# Altium schematic symbol library XBeeLight.SchLib: 35 symbols
Pins are listed as number, name and electrical type; pins without a type are passive.

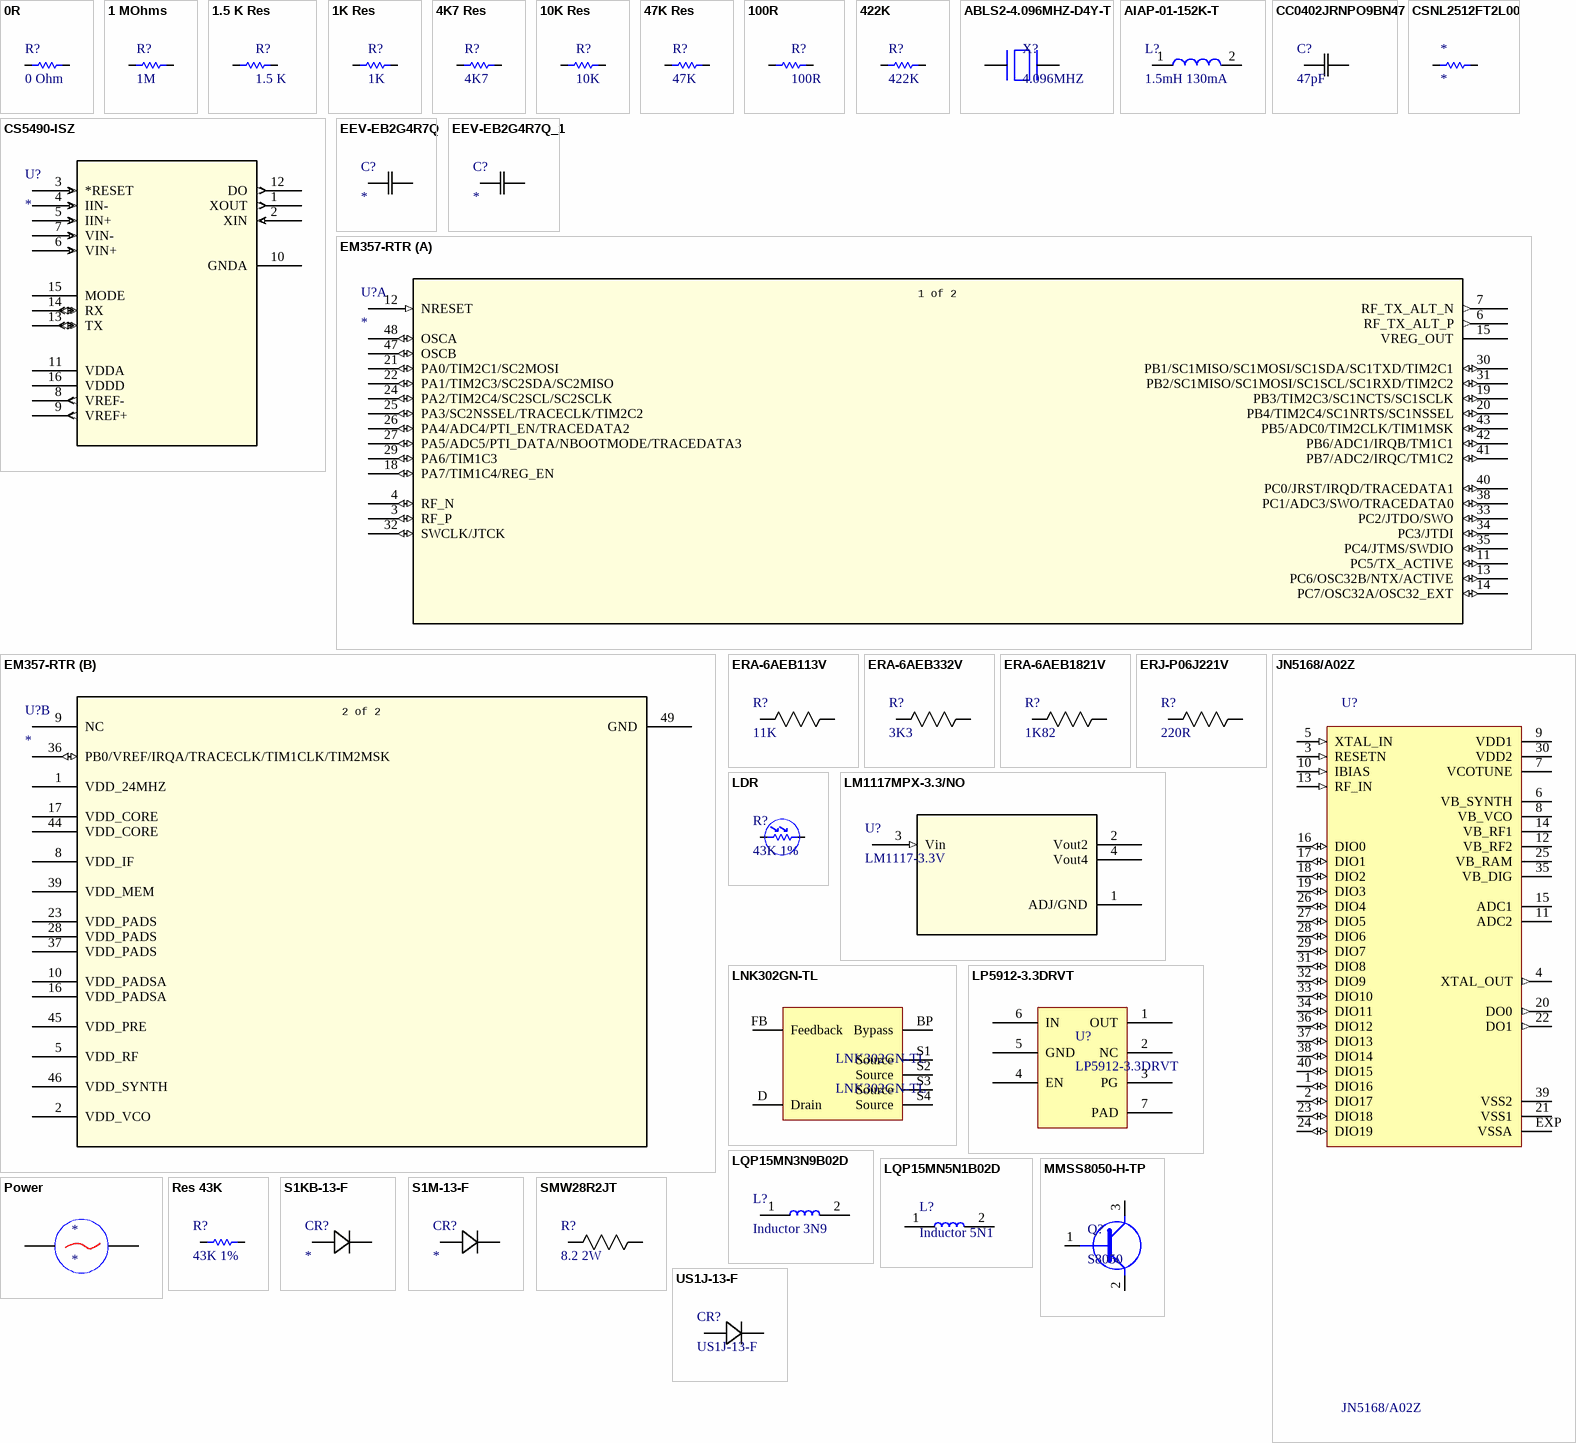
[diagram p0: symbols 0R to US1J-13-F]

## 0R
designator R?, comment 0 Ohm
Res Thick Film 0402 0 Ohm Molded SMD Automotive T/R; Manufacturer: Panasonic; Manufacturer Part Number: ERJ-2GE0R00X; EDA / CAD Models: Download from Accelerated Designs; Resistance (Ohms): 0.0; Tolerance: Jumper; Power (Watts): 0.1W, 1/10W; Online Catalog: ERJ Series; Other Names: P0.0JDKR; Supplier 1: Digi-Key; Stock 1: 6743847; Pricing 1: 1=0.1, 10=0.028, 25=0.0204, 50=0.0154, 100=0.0114, 250=0.0087, 500=0.007, 1000=0.0051, 5000=0.0037 (USD); Standard Package: 1; Category: Resistors; Family: Chip Resistor - Surface Mount; Series: ERJ; Packaging: Digi-Reel®; Composition: Thick Film; Features: Automotive AEC-Q200; Temperature Coefficient: -; Operating Temperature: -55°C ~ 155°C; Package / Case: 0402 (1005 Metric); Supplier Device Package: 0402; Size / Dimension: 0.039" L x 0.020" W (1.00mm x 0.50mm); Height: 0.016" (0.40mm); Number of Terminations: 2; ComponentLink1URL: https://datasheet.ciiva.com/11821/0900766b80f806dd-11821176.pdf; ComponentLink1Description: https://datasheet.ciiva.com/11821/0900766b80f806dd-11821176.pdf; ComponentLink2URL: https://datasheet.ciiva.com/48531/aoa0000ce1-48531077.pdf; ComponentLink2Description: https://datasheet.ciiva.com/48531/aoa0000ce1-48531077.pdf; ComponentLink3URL: https://datasheet.ciiva.com/16783/70260739-16783734.pdf; ComponentLink3Description: https://datasheet.ciiva.com/16783/70260739-16783734.pdf; ComponentLink4URL: https://datasheet.ciiva.com/17215/aoa0000ce1-17215386.pdf; ComponentLink4Description: https://datasheet.ciiva.com/17215/aoa0000ce1-17215386.pdf; ComponentLink5URL: https://datasheet.ciiva.com/43460/1678796-43460347.pdf; ComponentLink5Description: https://datasheet.ciiva.com/43460/1678796-43460347.pdf; ComponentLink6URL: https://datasheet.ciiva.com/5959/1678796-5959692.pdf; ComponentLink6Description: https://datasheet.ciiva.com/5959/1678796-5959692.pdf; ComponentLink7URL: https://datasheet.ciiva.com/30097/4aoa0000ce1-30097116.pdf; ComponentLink7Description: https://datasheet.ciiva.com/30097/4aoa0000ce1-30097116.pdf; ComponentLink8URL: https://datasheet.ciiva.com/28695/1678796-28695758.pdf; ComponentLink8Description: https://datasheet.ciiva.com/28695/1678796-28695758.pdf; ComponentLink9URL: https://datasheet.ciiva.com/46389/1678796-46389518.pdf; ComponentLink9Description: https://datasheet.ciiva.com/46389/1678796-46389518.pdf; ComponentLink10URL: https://datasheet.ciiva.com/16778/70260739-16778335.pdf; ComponentLink10Description: https://datasheet.ciiva.com/16778/70260739-16778335.pdf; Supplier Part Number 1: P0.0JCT-ND
footprint MCS 0402
pins: 1, 2

## 1 MOhms
designator R?, comment 1M
RES SMD 1M OHM 1% 1/10W 0402; Manufacturer: Vishay Beyschlag; Manufacturer Part Number: MCS04020C1004FE000; Brand: Vishay / Beyschlag; Power Rating: 63 mW; Temperature Coefficient: 50 PPM / K; Voltage Rating: 50 V; Case Height: 0.32 mm; Case Length: 1 mm; Case Width: 0.5 mm; Unit Weight: 0.000021 oz; Resistance: 1 MOhms; Supplier 1: Digi-Key; Stock 1: 20171; Pricing 1: 1=0.3, 10=0.254, 100=0.0993, 1000=0.0416, 2500=0.0381, 5000=0.0347 (USD); Product Category: Thin Film Resistors - SMD; RoHS: Details; Tolerance: 1 %; Case Code - in: 0402; Case Code - mm: 1005; Operating Temperature Range: - 55 C to + 125 C; Package / Case: 0402 (1005 metric); Packaging: Reel; Product: Professional Resistors Thin Film SMD; Series: MCx; Factory Pack Quantity: 10000; Type: Professional Thin Film Chip Resistors; ComponentLink1URL: https://datasheet.ciiva.com/12700/mc-pro-223600-12700038.pdf; ComponentLink1Description: https://datasheet.ciiva.com/12700/mc-pro-223600-12700038.pdf; ComponentLink2URL: https://datasheet.ciiva.com/17204/mc-pro-17204358.pdf; ComponentLink2Description: https://datasheet.ciiva.com/17204/mc-pro-17204358.pdf; ComponentLink3URL: https://datasheet.ciiva.com/2471/mc-pro-2471768.pdf; ComponentLink3Description: https://datasheet.ciiva.com/2471/mc-pro-2471768.pdf; ComponentLink4URL: https://datasheet.ciiva.com/2471/mc-pro-2471769.pdf; ComponentLink4Description: https://datasheet.ciiva.com/2471/mc-pro-2471769.pdf; ComponentLink5URL: https://datasheet.ciiva.com/2471/mc-pro-2471770.pdf; ComponentLink5Description: https://datasheet.ciiva.com/2471/mc-pro-2471770.pdf; ComponentLink6URL: https://datasheet.ciiva.com/8901/mc-pro-8901820.pdf; ComponentLink6Description: https://datasheet.ciiva.com/8901/mc-pro-8901820.pdf; Supplier Part Number 1: MCS0402-1.00M-CFCT-ND
footprint MCS 0402
pins: 1, 2

## 1.5 K Res
designator R?, comment 1.5 K
Res Thin Film 0402 1.5K Ohm 0.1% 0.063W(1/16W) ±25ppm/C Molded SMD Automotive Punched T/R; Manufacturer: Panasonic; Manufacturer Part Number: ERA-2AEB152X; Temperature Coefficient: ± 25ppm/°C; Voltage Rating: 25V; Product Range: PANASONIC - ERA Series; Power Rating: 63mW; Resistor Case Style: 0402 ^1005 Metric]; Supplier 1: Digi-Key; Stock 1: 80267; Pricing 1: 1=0.43, 10=0.326, 100=0.137, 1000=0.0756, 2500=0.0709, 5000=0.0652 (USD); Resistance: 1.5kohm; Resistance Tolerance: ± 0.1%; Resistor Element Type: Thin Film; ComponentLink1URL: https://datasheet.ciiva.com/11812/0900766b80beefcc-11812726.pdf; ComponentLink1Description: https://datasheet.ciiva.com/11812/0900766b80beefcc-11812726.pdf; ComponentLink2URL: https://datasheet.ciiva.com/9198/aoa0000ce26-9198134.pdf; ComponentLink2Description: https://datasheet.ciiva.com/9198/aoa0000ce26-9198134.pdf; ComponentLink3URL: https://datasheet.ciiva.com/17214/aoa0000ce26-17214729.pdf; ComponentLink3Description: https://datasheet.ciiva.com/17214/aoa0000ce26-17214729.pdf; ComponentLink4URL: https://datasheet.ciiva.com/24071/aoa0000ce26-197354-24071641.pdf; ComponentLink4Description: https://datasheet.ciiva.com/24071/aoa0000ce26-197354-24071641.pdf; Supplier Part Number 1: P1.5KDCCT-ND
footprint MCS 0402
pins: 1, 2

## 1K Res
designator R?, comment 1K
RES SMD 1K OHM 5% 1/32W 01005; Manufacturer: Panasonic; Manufacturer Part Number: ERJ-XGNJ102Y; Resistance: 1 kOhms; Power Rating: 31 mW; Temperature Coefficient: 200 PPM / C; Voltage Rating: 15 V; Case Height: 0.13 mm; Case Length: 0.4 mm; Case Width: 0.2 mm; Supplier 1: Digi-Key; Stock 1: 104433; Pricing 1: 1=0.4, 10=0.335, 100=0.131, 1000=0.0548, 2500=0.0503, 5000=0.0457 (USD); Product Category: Thick Film Resistors - SMD; RoHS: Details; Tolerance: 5 %; Case Code - in: 01005; Case Code - mm: 0402; Operating Temperature Range: - 55 C to + 125 C; Brand: Panasonic; Package / Case: 01005 (0402 metric); Packaging: Reel; Product: Thick Film Resistors SMD; Series: ERJ; Factory Pack Quantity: 20000; Type: Thick Film Resistors SMD; ComponentLink1URL: https://datasheet.ciiva.com/9199/aoa0000ce1-9199077.pdf; ComponentLink1Description: https://datasheet.ciiva.com/9199/aoa0000ce1-9199077.pdf; ComponentLink2URL: https://datasheet.ciiva.com/6544/erjxgn-6544006.pdf; ComponentLink2Description: https://datasheet.ciiva.com/6544/erjxgn-6544006.pdf; ComponentLink3URL: https://datasheet.ciiva.com/17215/aoa0000ce1-17215353.pdf; ComponentLink3Description: https://datasheet.ciiva.com/17215/aoa0000ce1-17215353.pdf; ComponentLink4URL: https://datasheet.ciiva.com/6544/erjxgn-6544011.pdf; ComponentLink4Description: https://datasheet.ciiva.com/6544/erjxgn-6544011.pdf; ComponentLink5URL: https://datasheet.ciiva.com/30174/4aoa0000ce1-30174159.pdf; ComponentLink5Description: https://datasheet.ciiva.com/30174/4aoa0000ce1-30174159.pdf; Supplier Part Number 1: P1.0KAWCT-ND
footprint MCS 0402
pins: 1, 2

## 4K7 Res
designator R?, comment 4K7
Panasonic ERA Series Thin Film Surface Mount Resistor 0402 Case 4.7k 0.1% 0.063W 25ppm/C; Manufacturer Part Number: ERA-2AEB472X; Resistance: 4.7 kO; Temp Coefficient: ±25 ppm/°C; Supplier 1: Digi-Key; Manufacturer: Panasonic; Stock 1: 111513; Pricing 1: 1=0.43, 10=0.326, 100=0.137, 1000=0.0756, 2500=0.0709, 5000=0.0652 (USD); Rated Power: 0.063 W; Size Code: 0402; Tolerance (%): ±0.1 %; ComponentLink1URL: https://datasheet.ciiva.com/11811/0900766b80beefcc-11811886.pdf; ComponentLink1Description: https://datasheet.ciiva.com/11811/0900766b80beefcc-11811886.pdf; ComponentLink2URL: https://datasheet.ciiva.com/22640/328837-22640615.pdf; ComponentLink2Description: https://datasheet.ciiva.com/22640/328837-22640615.pdf; ComponentLink3URL: https://datasheet.ciiva.com/24023/aoa0000ce26-197354-24023865.pdf; ComponentLink3Description: https://datasheet.ciiva.com/24023/aoa0000ce26-197354-24023865.pdf; ComponentLink4URL: https://datasheet.ciiva.com/46399/328837-46399002.pdf; ComponentLink4Description: https://datasheet.ciiva.com/46399/328837-46399002.pdf; ComponentLink5URL: https://datasheet.ciiva.com/22743/1776116-22743051.pdf; ComponentLink5Description: https://datasheet.ciiva.com/22743/1776116-22743051.pdf; ComponentLink6URL: https://datasheet.ciiva.com/9117/aoa0000ce26-9117420.pdf; ComponentLink6Description: https://datasheet.ciiva.com/9117/aoa0000ce26-9117420.pdf; ComponentLink7URL: https://datasheet.ciiva.com/16759/70068849-16759180.pdf; ComponentLink7Description: https://datasheet.ciiva.com/16759/70068849-16759180.pdf; ComponentLink8URL: https://datasheet.ciiva.com/9117/aoa0000ce26-9117423.pdf; ComponentLink8Description: https://datasheet.ciiva.com/9117/aoa0000ce26-9117423.pdf; ComponentLink9URL: https://datasheet.ciiva.com/16395/aoa0000ce26-16395247.pdf; ComponentLink9Description: https://datasheet.ciiva.com/16395/aoa0000ce26-16395247.pdf; ComponentLink10URL: https://datasheet.ciiva.com/25723/1776116-25723855.pdf; ComponentLink10Description: https://datasheet.ciiva.com/25723/1776116-25723855.pdf; Supplier Part Number 1: P4.7KDCCT-ND
footprint MCS 0402
pins: 1, 2

## 10K Res
designator R?, comment 10K
Res Thin Film 0402 10K Ohm 0.5% 0.063W(1/16W) ±25ppm/C Molded SMD Automotive Punched T/R; Manufacturer: Panasonic; Manufacturer Part Number: ERA-2AED103X; Resistance: 10 kO; Temp Coefficient: ±25 ppm/°C; Supplier 1: Digi-Key; Stock 1: 99513; Pricing 1: 1=0.22, 10=0.188, 100=0.0735, 1000=0.0308, 2500=0.0282, 5000=0.0256 (USD); Rated Power: 0.063 W; Size Code: 0402; Tolerance (%): ±0.5 %; ComponentLink1URL: https://datasheet.ciiva.com/43470/1776116-43470437.pdf; ComponentLink1Description: https://datasheet.ciiva.com/43470/1776116-43470437.pdf; ComponentLink2URL: https://datasheet.ciiva.com/7830/1776116-7830919.pdf; ComponentLink2Description: https://datasheet.ciiva.com/7830/1776116-7830919.pdf; ComponentLink3URL: https://datasheet.ciiva.com/30240/54aoa0000ce26-30240474.pdf; ComponentLink3Description: https://datasheet.ciiva.com/30240/54aoa0000ce26-30240474.pdf; ComponentLink4URL: https://datasheet.ciiva.com/46378/1776116-46378235.pdf; ComponentLink4Description: https://datasheet.ciiva.com/46378/1776116-46378235.pdf; Supplier Part Number 1: P10KDECT-ND
footprint MCS 0402
pins: 1, 2

## 47K Res
designator R?, comment 47K
RES SMD 47K OHM 5% 1/32W 01005; Manufacturer: Panasonic; Manufacturer Part Number: ERJ-XGNJ473Y; Resistance: 47 kOhms; Power Rating: 31 mW; Temperature Coefficient: 200 PPM / C; Voltage Rating: 15 V; Case Height: 0.13 mm; Case Length: 0.4 mm; Case Width: 0.2 mm; Supplier 1: Digi-Key; Stock 1: 158307; Pricing 1: 1=0.41, 10=0.345, 100=0.1347, 1000=0.0564, 2500=0.0517, 5000=0.047 (USD); Product Category: Thick Film Resistors - SMD; RoHS: Details; Tolerance: 5 %; Case Code - in: 01005; Case Code - mm: 0402; Operating Temperature Range: - 55 C to + 125 C; Brand: Panasonic; Package / Case: 01005 (0402 metric); Packaging: Reel; Product: Thick Film Resistors SMD; Series: ERJ; Factory Pack Quantity: 20000; Type: Thick Film Resistors SMD; ComponentLink1URL: https://datasheet.ciiva.com/6543/erjxgn-6543942.pdf; ComponentLink1Description: https://datasheet.ciiva.com/6543/erjxgn-6543942.pdf; ComponentLink2URL: https://datasheet.ciiva.com/24022/aoa0000ce1-37422-24022984.pdf; ComponentLink2Description: https://datasheet.ciiva.com/24022/aoa0000ce1-37422-24022984.pdf; ComponentLink3URL: https://datasheet.ciiva.com/30244/4aoa0000ce1-30244396.pdf; ComponentLink3Description: https://datasheet.ciiva.com/30244/4aoa0000ce1-30244396.pdf; ComponentLink4URL: https://datasheet.ciiva.com/6543/erjxgn-6543935.pdf; ComponentLink4Description: https://datasheet.ciiva.com/6543/erjxgn-6543935.pdf; Supplier Part Number 1: P47KAWCT-ND
footprint MCS 0402
pins: 1, 2

## 100R
designator R?
Res Thin Film 0402 100 Ohm 0.5% 0.063W(1/16W) ±25ppm/C Molded SMD Automotive Punched T/R; Manufacturer: Panasonic; Manufacturer Part Number: ERA-2AED101X; Featured Product: ERA-xA Metal/Thin Film Chip Resistors Hot New Technologies Wearables Technology Components; EDA / CAD Models: Download from Accelerated Designs; Resistance (Ohms): 100; Power (Watts): 0.063W, 1/16W; Temperature Coefficient: ±25ppm/°C; Online Catalog: ERA-2A Series; Other Names: P100DEDKR; Supplier 1: Digi-Key; Stock 1: 25171; Pricing 1: 1=0.22, 10=0.188, 100=0.0735, 1000=0.0308, 2500=0.0282, 5000=0.0256 (USD); Standard Package: 1; Category: Resistors; Family: Chip Resistor - Surface Mount; Series: ERA-2A; Packaging: Digi-Reel®; Tolerance: ±0.5%; Composition: Thin Film; Features: Automotive AEC-Q200; Operating Temperature: -55°C ~ 155°C; Package / Case: 0402 (1005 Metric); Supplier Device Package: 0402; Size / Dimension: 0.039" L x 0.020" W (1.00mm x 0.50mm); Height: 0.016" (0.40mm); Number of Terminations: 2; ComponentLink1URL: http://www.mouser.com/ds/2/315/AOA0000C237-1100991.pdf; ComponentLink1Description: http://www.mouser.com/ds/2/315/AOA0000C237-1100991.pdf; ComponentLink2URL: http://www.farnell.com/datasheets/1776116.pdf; ComponentLink2Description: http://www.farnell.com/datasheets/1776116.pdf; ComponentLink3URL: http://industrial.panasonic.com/www-data/pdf/AOA0000/AOA0000CE26.pdf; ComponentLink3Description: http://industrial.panasonic.com/www-data/pdf/AOA0000/AOA0000CE26.pdf; Supplier Part Number 1: P100DECT-ND
footprint MCS 0402
pins: 1, 2

## 422K
designator R?
RESISTOR, THICK FILM, 422KOHM, 100mW, ± 1%; Manufacturer: Panasonic; Manufacturer Part Number: ERJ-2RKF4223X; EDA / CAD Models: Download from Accelerated Designs; Power (Watts): 0.1W, 1/10W; Temperature Coefficient: ±100ppm/°C; Online Catalog: ERJ Series; Kits: RSM5L-ND  - RES KIT 100K-1M 1/10W 4850PCS; Other Names: ERJ-2RKF4223 ERJ2RKF4223 P422KLCT; Supplier 1: Digi-Key; Stock 1: 90880; Pricing 1: 1=0.1, 10=0.045, 100=0.0183, 1000=0.0082, 2500=0.0072, 5000=0.0059 (USD); Standard Package: 1; Category: Resistors; Family: Chip Resistor - Surface Mount; Series: ERJ; Packaging: Cut Tape (CT); Resistance (Ohms): 422k; Tolerance: ±1%; Composition: Thick Film; Features: Automotive AEC-Q200; Operating Temperature: -55°C ~ 155°C; Package / Case: 0402 (1005 Metric); Supplier Device Package: 0402; Size / Dimension: 0.039" L x 0.020" W (1.00mm x 0.50mm); Height: 0.016" (0.40mm); Number of Terminations: 2; ComponentLink1URL: http://www.farnell.com/datasheets/1678782.pdf; ComponentLink1Description: http://www.farnell.com/datasheets/1678782.pdf; ComponentLink2URL: http://industrial.panasonic.com/www-data/pdf/AOA0000/AOA0000CE2.pdf; ComponentLink2Description: http://industrial.panasonic.com/www-data/pdf/AOA0000/AOA0000CE2.pdf; ComponentLink3URL: http://www.mouser.com/ds/2/315/AOA0000C283-1093288.pdf; ComponentLink3Description: http://www.mouser.com/ds/2/315/AOA0000C283-1093288.pdf; Supplier Part Number 1: P422KLCT-ND
footprint MCS 0402
pins: 1, 2

## ABLS2-4.096MHZ-D4Y-T
designator X?, comment 4.096MHZ
4.096MHz ±30ppm Crystal 18pF 180 Ohm -40°C ~ 85°C  Surface Mount HC49/US; Manufacturer: Abracon; Manufacturer Part Number: ABLS2-4.096MHZ-D4Y-T; ESR: 180 ohm; Frequency Stability: ?30 ppm; Frequency Tolerance: ?30; Mode of Oscillation: Fundamental; Product Depth (mm): 4.7 mm; Product Length (mm): 11.4 mm; Screening Level: Industrial; Supplier 1: Digi-Key; Stock 1: 6062; Pricing 1: 1=0.46, 10=0.385, 50=0.3466, 100=0.308, 500=0.2926 (USD); Frequency: 4.096 MHz; Load Capacitance: 18 pF; Mounting Style: Surface Mount; Operating Temp Range: -40C to 85C; Package / Case: HC-49/US; Packaging: Tape and Reel; Type: Crystal; ComponentLink1URL: http://www.abracon.com/Resonators/ABLS2.pdf; ComponentLink1Description: http://www.abracon.com/Resonators/ABLS2.pdf; ComponentLink2URL: https://abracon.com/Resonators/ABLS2.pdf; ComponentLink2Description: https://abracon.com/Resonators/ABLS2.pdf; ComponentLink3URL: http://www.farnell.com/datasheets/1749648.pdf; ComponentLink3Description: http://www.farnell.com/datasheets/1749648.pdf; Supplier Part Number 1: 535-9858-1-ND
footprint XTAL_ABLS2-4.096MHZ-D4Y-T
pins: 1, 2

## AIAP-01-152K-T
designator L?, comment 1.5mH 130mA
Imported; Manufacturer_Part_Number: AIAP-01-152K-T; Built_By: EMA_UL_Team; Vendor: Abracon; Type: DEV; RefDes: RefDes; Value: Value
footprint AIAP-01
pins: 1, 2

## CC0402JRNPO9BN47
designator C?, comment 47pF
Imported; Manufacturer_Part_Number: CC0402JRNPO9BN470; Vendor: Yageo; Built_By: EMA_UL_Team; Type: DEV; C: Copyright (C) 2015 Accelerated Designs. All rights reserved; RefDes: RefDes; Value: Value
footprint CC0402N
pins: 1, 2

## CS5490-ISZ
designator U?
Imported; Manufacturer_Part_Number: CS5490-ISZ; Built_By: EMA_UL_Team; Vendor: Cirrus Logic; RefDes: RefDes; Type: DEV; Value: Value
footprint CIR-SOIC-16_W150
pins: 1 XOUT (out), 2 XIN (in), 3 *RESET (in), 4 IIN- (in), 5 IIN+ (in), 6 VIN+ (in), 7 VIN- (in), 8 VREF- (out), 9 VREF+ (out), 10 GNDA (power), 11 VDDA (power), 12 DO (out), 13 TX (io), 14 RX (io), 15 MODE, 16 VDDD (power)

## CSNL2512FT2L00
designator *
Res Metal Foil 2512 0.002 Ohm 1% 2W 50ppm/C Molded SMD SMD Plastic T/R; Manufacturer: Stackpole Electronics; Manufacturer Part Number: CSNL2512FT2L00; Resistance (Ohms): 0.002; Temperature Coefficient: ±50ppm/°C; Supplier 1: Digi-Key; Stock 1: 74871; Pricing 1: 1=0.68, 10=0.566, 25=0.4852, 50=0.4366, 100=0.38, 250=0.3396, 500=0.2749, 1000=0.2223 (USD); Category: Resistors; Family: Chip Resistor - Surface Mount; Series: CSNL; Packaging: Cut Tape (CT); Tolerance: ±1%; Power (Watts): 2W; Composition: Metal Foil; Features: Current Sense, Moisture Resistant; Operating Temperature: -55°C ~ 170°C; Package / Case: 2512 (6432 Metric); Supplier Device Package: 2512; Size / Dimension: 0.250" L x 0.125" W (6.35mm x 3.18mm); Height: 0.022" (0.55mm); Number of Terminations: 2; Supplier Part Number 1: CSNL2512FT2L00CT-ND
pins: 1, 2

## EEV-EB2G4R7Q
designator C?
Imported; Manufacturer_Part_Number: EEV-EB2G4R7Q; Vendor: Panasonic; Built_By: EMA_UL_Team; Type: DEV; C: Copyright (C) 2015 Accelerated Designs. All rights reserved; RefDes: RefDes; Value: Value
footprint CAP_PAN_EEE_G17
pins: 1, 2

## EEV-EB2G4R7Q_1
designator C?
Imported; Manufacturer_Part_Number: EEV-EB2G4R7Q; Vendor: Panasonic; Built_By: EMA_UL_Team; Type: DEV; C: Copyright (C) 2015 Accelerated Designs. All rights reserved; RefDes: RefDes; Value: Value
footprint CAP_PAN_EEE_G17
pins: 1, 2

## EM357-RTR
designator U?
Imported; Manufacturer_Part_Number: EM357-RTR; Built_By: EMA_UL_Team; Vendor: Silicon Labs; RefDes: RefDes; Type: DEV; Value: Value
footprint QFN48
part A pins: 3 RF_P (io), 4 RF_N (io), 6 RF_TX_ALT_P (out), 7 RF_TX_ALT_N (out), 11 PC5/TX_ACTIVE (io), 12 NRESET (in), 13 PC6/OSC32B/NTX/ACTIVE (io), 14 PC7/OSC32A/OSC32_EXT (io), 15 VREG_OUT (power), 18 PA7/TIM1C4/REG_EN (io), 19 PB3/TIM2C3/SC1NCTS/SC1SCLK (io), 20 PB4/TIM2C4/SC1NRTS/SC1NSSEL (io), 21 PA0/TIM2C1/SC2MOSI (io), 22 PA1/TIM2C3/SC2SDA/SC2MISO (io), 24 PA2/TIM2C4/SC2SCL/SC2SCLK (io), 25 PA3/SC2NSSEL/TRACECLK/TIM2C2 (io), 26 PA4/ADC4/PTI_EN/TRACEDATA2 (io), 27 PA5/ADC5/PTI_DATA/NBOOTMODE/TRACEDATA3 (io), 29 PA6/TIM1C3 (io), 30 PB1/SC1MISO/SC1MOSI/SC1SDA/SC1TXD/TIM2C1 (io), 31 PB2/SC1MISO/SC1MOSI/SC1SCL/SC1RXD/TIM2C2 (io), 32 SWCLK/JTCK (io), 33 PC2/JTDO/SWO (io), 34 PC3/JTDI (io), 35 PC4/JTMS/SWDIO (io), 38 PC1/ADC3/SWO/TRACEDATA0 (io), 40 PC0/JRST/IRQD/TRACEDATA1 (io), 41 PB7/ADC2/IRQC/TM1C2 (io), 42 PB6/ADC1/IRQB/TM1C1 (io), 43 PB5/ADC0/TIM2CLK/TIM1MSK (io), 47 OSCB (io), 48 OSCA (io)
part B pins: 1 VDD_24MHZ (power), 2 VDD_VCO (power), 5 VDD_RF (power), 8 VDD_IF (power), 9 NC, 10 VDD_PADSA (power), 16 VDD_PADSA (power), 17 VDD_CORE (power), 23 VDD_PADS (power), 28 VDD_PADS (power), 36 PB0/VREF/IRQA/TRACECLK/TIM1CLK/TIM2MSK (io), 37 VDD_PADS (power), 39 VDD_MEM (power), 44 VDD_CORE (power), 45 VDD_PRE (power), 46 VDD_SYNTH (power), 49 GND (power)
part A text: 1 of 2
part B text: 2 of 2

## ERA-6AEB113V
designator R?, comment 11K
Imported; Manufacturer_Part_Number: ERA-6AEB113V; Vendor: Panasonic; Built_By: EMA_UL_Team; C: Copyright (C) 2015 Accelerated Designs. All rights reserved; RefDes: RefDes; Type: DEV; Value: Value
footprint RC0805N
pins: 1, 2

## ERA-6AEB332V
designator R?, comment 3K3
Imported; Manufacturer_Part_Number: ERA-6AEB332V; Vendor: Panasonic; Built_By: EMA_UL_Team; C: Copyright (C) 2015 Accelerated Designs. All rights reserved; RefDes: RefDes; Type: DEV; Value: Value
footprint RC0805N
pins: 1, 2

## ERA-6AEB1821V
designator R?, comment 1K82
Imported; Manufacturer_Part_Number: ERA-6AEB1821V; Vendor: Panasonic; Built_By: EMA_UL_Team; C: Copyright (C) 2015 Accelerated Designs. All rights reserved; RefDes: RefDes; Type: DEV; Value: Value
footprint RES_ERA6A_0805
pins: 1, 2

## ERJ-P06J221V
designator R?, comment 220R
Imported; Manufacturer_Part_Number: ERJ-P06J221V; Vendor: Panasonic; Built_By: EMA_UL_Team; C: Copyright (C) 2015 Accelerated Designs. All rights reserved; RefDes: RefDes; Type: DEV; Value: Value
footprint RC0805N
pins: 1, 2

## JN5168/A02Z
designator U?
JN5168 - ZigBee, RF4CE, JenNet-IP and IEEE802.15.4 wireless microcontroller with 256 kB Flash, 32 kB RAM; MF: NXP Semiconductors; Availability: Unavailable; Price: None; Package: None; SnapEDA_Link: https://www.snapeda.com/parts/JN5168/A02Z/NXP%20Semiconductors/view-part/?ref=snap; MP: JN5168/A02Z; Value: *
footprint QFN50P600X600X100-41N_JN5168/A02Z(Primary)
pins: 1 DIO16 (io), 2 DIO17 (io), 3 RESETN (in), 4 XTAL_OUT (out), 5 XTAL_IN (in), 6 VB_SYNTH (power), 7 VCOTUNE (power), 8 VB_VCO (power), 9 VDD1 (power), 10 IBIAS (in), 11 ADC2 (power), 12 VB_RF2 (power), 13 RF_IN (in), 14 VB_RF1 (power), 15 ADC1 (power), 16 DIO0 (io), 17 DIO1 (io), 18 DIO2 (io), 19 DIO3 (io), 20 DO0 (out), 21 VSS1 (power), 22 DO1 (out), 23 DIO18 (io), 24 DIO19 (io), 25 VB_RAM (power), 26 DIO4 (io), 27 DIO5 (io), 28 DIO6 (io), 29 DIO7 (io), 30 VDD2 (power), 31 DIO8 (io), 32 DIO9 (io), 33 DIO10 (io), 34 DIO11 (io), 35 VB_DIG (power), 36 DIO12 (io), 37 DIO13 (io), 38 DIO14 (io), 39 VSS2 (power), 40 DIO15 (io), EXP VSSA (power)

## LDR
designator R?, comment 43K 1%
Imported; Manufacturer_Part_Number: ERJ-2RKF4302X; Vendor: Panasonic; Built_By: EMA_UL_Team; C: Copyright (C) 2015 Accelerated Designs. All rights reserved; RefDes: RefDes; Type: DEV; Value: Value
footprint RC0402N
pins: 1, 2

## LM1117MPX-3.3/NO
designator U?, comment LM1117-3.3V
Imported; Manufacturer_Part_Number: LM1117MPX-3.3/NOPB; Built_By: EMA_UL_Team; Vendor: National Semiconductor; RefDes: RefDes; Type: DEV; Value: Value
footprint MP04A
pins: 1 ADJ/GND, 2 Vout2 (power), 3 Vin (in), 4 Vout4 (power)

## LNK302GN-TL
designator LNK302GN-TL
IC OFFLINE SWIT OCP 8SMD; Manufacturer: Power Integrations; Dynamic Catalog: AC DC Converters, Offline Switchers; Power (Watts): 12mW; Reference Design Library: DER-092: 4 LEDs @ 40mA, 0.5W, 85 ~ 265VAC in; Output Isolation: Non-Isolated; Frequency Range: 62kHz ~ 70kHz; Voltage - Breakdown: 700V; Other Names: 596-1020-2 / LNK302GNTL; Supplier 1: Digi-Key; Supplier Part Number 1: 596-1020-1-ND; Manufacturer Part Number: LNK302GN-TL; Stock 1: 53740; Pricing 1: 1=1.35, 10=1.193, 25=1.0776, 100=0.9428, 250=0.8273, 500=0.7311 (USD); Standard Package: 1,000; Category: Integrated Circuits (ICs); Family: PMIC - AC DC Converters, Offline Switchers; Series: LinkSwitch®-TN; Packaging: Tape & Reel (TR); Voltage - Input: -; Voltage - Output: -; Operating Temperature: -40°C ~ 150°C; Package / Case: 8-SMD (7 Leads), Gull Wing; Supplier Device Package: SMD-8B; Online Catalog: AC DC Converters, Offline Switchers; ComponentLink1URL: http://www.powerint.com/sites/default/files/product-docs/lnk302_304-306.pdf; ComponentLink1Description: http://www.powerint.com/sites/default/files/product-docs/lnk302_304-306.pdf; ComponentLink2URL: https://www.power.com/sites/default/files/product-docs/lnk302_304-306.pdf; ComponentLink2Description: https://www.power.com/sites/default/files/product-docs/lnk302_304-306.pdf; ComponentLink3URL: http://www.power.com/sites/default/files/product-docs/lnk302_304-306.pdf; ComponentLink3Description: http://www.power.com/sites/default/files/product-docs/lnk302_304-306.pdf
footprint SMD-8B
pins: BP Bypass (oc), D Drain (oc), FB Feedback (oc), S1 Source (oc), S2 Source (oc), S3 Source (oc), S4 Source (oc)

## LP5912-3.3DRVT
designator U?
Linear Voltage Regulator IC Positive Fixed 1 Output 3.3V 500mA 6-SON (2x2); Manufacturer: Texas Instruments; Voltage - Dropout (Typical): 0.95V @ 500mA; Number of Regulators: 1; Voltage - Input: Up to 6.5V; Supplier 1: Digi-Key; Manufacturer Part Number: LP5912-3.3DRVT; Stock 1: 5942; Pricing 1: 1=1.38, 10=1.231, 100=0.9594 (USD); Category: Integrated Circuits (ICs); Family: PMIC - Voltage Regulators - Linear; Series: -; Packaging: Tape & Reel (TR); Regulator Topology: Positive Fixed; Voltage - Output: 3.3V; Current - Output: 500mA; Current - Limit (Min): -; Operating Temperature: -40°C ~ 125°C; Mounting Type: Surface Mount; Package / Case: 6-WDFN Exposed Pad; Supplier Device Package: 6-SON (2x2); ComponentLink1URL: http://www.ti.com/lit/ds/symlink/lp5912.pdf; ComponentLink1Description: http://www.ti.com/lit/ds/symlink/lp5912.pdf; ComponentLink2URL: http://www.ti.com/general/docs/lit/getliterature.tsp?genericPartNumber=LP5912&amp;&amp;fileType=pdf; ComponentLink2Description: http://www.ti.com/general/docs/lit/getliterature.tsp?genericPartNumber=LP5912&amp;&amp;fileType=pdf; Supplier Part Number 1: 296-44153-1-ND
footprint DRV0006A_NV
pins: 1 OUT, 2 NC, 3 PG, 4 EN, 5 GND, 6 IN, 7 PAD

## LQP15MN3N9B02D
designator L?, comment Inductor 3N9
FIXED IND 3.9NH 170MA 500 MOHM; Manufacturer: Murata; Manufacturer Part Number: LQP15MN3N9B02D; Product Training Modules: Inductor Products Chip RF Inductors; Catalog Drawings: LQP15M Series Top LQP15M Series Side; Type: Thin Film; Material - Core: Non-Magnetic; Tolerance: ±0.1nH; Shielding: Unshielded; DC Resistance (DCR): 500 mOhm Max; Q @ Freq: 13 @ 500MHz; Frequency - Self Resonant: 6GHz; Frequency - Test: 500MHz; Online Catalog: LQP Series; Other Names: 490-1131-2 / LQP10A3N9B02T1; Supplier 1: Digi-Key; Stock 1: 110804; Pricing 1: 1=0.19, 10=0.173, 100=0.1152, 500=0.096, 1000=0.0807, 2500=0.0691 (USD); Standard Package: 10,000; Category: Inductors, Coils, Chokes; Family: Fixed Inductors; Series: LQP15M; Packaging: Tape & Reel (TR); Inductance: 3.9nH; Current Rating: 170mA; Operating Temperature: -40°C ~ 85°C; Mounting Type: Surface Mount; Package / Case: 0402 (1005 Metric); Size / Dimension: 0.039" L x 0.020" W (1.00mm x 0.50mm); Height - Seated (Max): 0.018" (0.45mm); ComponentLink1URL: http://search.murata.co.jp/Ceramy/image/img/PDF/ENG/L0075S0084LQP15M.pdf; ComponentLink1Description: http://search.murata.co.jp/Ceramy/image/img/PDF/ENG/L0075S0084LQP15M.pdf; ComponentLink2URL: https://www.murata.com/~/media/webrenewal/support/library/catalog/products/inductor/chip/o05e.ashx; ComponentLink2Description: https://www.murata.com/~/media/webrenewal/support/library/catalog/products/inductor/chip/o05e.ashx; ComponentLink3URL: http://www.jameco.com/Jameco/Products/ProdDS/1865137.pdf; ComponentLink3Description: http://www.jameco.com/Jameco/Products/ProdDS/1865137.pdf; ComponentLink4URL: https://www.murata.com/~/media/webrenewal/support/library/catalog/products/inductor/chip/o05e.ashx?la=en-us; ComponentLink4Description: https://www.murata.com/~/media/webrenewal/support/library/catalog/products/inductor/chip/o05e.ashx?la=en-us; ComponentLink5URL: http://uk.rs-online.com/webdocs/0f15/0900766b80f155d9.pdf; ComponentLink5Description: http://uk.rs-online.com/webdocs/0f15/0900766b80f155d9.pdf; Supplier Part Number 1: 490-1131-1-ND
footprint INDC1005X45
pins: 1, 2

## LQP15MN5N1B02D
designator L?, comment Inductor 5N1
Inductor RF Chip Unshielded Thin Film 5.1nH 0.1nH 500MHz 13Q-Factor Ceramic 140mA 700mOhm DCR 0402 T/R; MF: Murata; MP: LQP15MN5N1B02D; Package: 0402 Murata; Digi-Key_Part_Number: 490-6758-1-ND; Digi-Key_Purchase_URL: https://www.digikey.lk/product-detail/en/murata-electronics-north-america/LQP15MN5N1B02D/490-6758-1-ND/3845955?utm_source=snapeda&utm_medium=aggregator&utm_campaign=symbol; SnapEDA_Link: https://www.snapeda.com/parts/LQP15MN5N1B02D/Murata%20Electronics%20North%20America/view-part/?ref=snap; Value: *
footprint INDC1005X45
pins: 1, 2

## MMSS8050-H-TP
designator Q?, comment S8050
TRANS NPN 25V 1.5A SOT23; Manufacturer: MCC; Manufacturer Part Number: MMSS8050-H-TP; Vce Saturation (Max) @ Ib, Ic: 500mV @ 80mA, 800mA; Current - Collector Cutoff (Max): 100nA; DC Current Gain (hFE) (Min) @ Ic, Vce: 120 @ 100mA, 1V; Power - Max: 625mW; Frequency - Transition: 100MHz; Online Catalog: NPN Transistors; Other Names: MMSS8050-H-TP-ND MMSS8050-H-TPMSTR MMSS8050HTP Q6289485; Supplier 1: Digi-Key; Stock 1: 2136; Pricing 1: 1=0.21, 10=0.19, 25=0.1728, 100=0.1246, 250=0.0734, 500=0.0609, 1000=0.0415 (USD); Standard Package: 3,000; Category: Discrete Semiconductor Products; Family: Transistors (BJT) - Single; Series: -; Packaging: Tape & Reel (TR); Transistor Type: NPN; Current - Collector (Ic) (Max): 1.5A; Voltage - Collector Emitter Breakdown (Max): 25V; Mounting Type: Surface Mount; Package / Case: TO-236-3, SC-59, SOT-23-3; Supplier Device Package: SOT-23; ComponentLink1URL: http://www.mouser.com/ds/2/258/MMSS8050-255048.pdf; ComponentLink1Description: http://www.mouser.com/ds/2/258/MMSS8050-255048.pdf; ComponentLink2URL: http://www.mccsemi.com/up_pdf/MMSS8050(SOT-23).pdf; ComponentLink2Description: http://www.mccsemi.com/up_pdf/MMSS8050(SOT-23).pdf; Supplier Part Number 1: MMSS8050-H-TPMSCT-ND
footprint SI2305TP
pins: 1 B, 2 E, 3 C

## Power
designator *
pins: 4, 4

## Res 43K
designator R?, comment 43K 1%
Imported; Manufacturer_Part_Number: ERJ-2RKF4302X; Vendor: Panasonic; Built_By: EMA_UL_Team; C: Copyright (C) 2015 Accelerated Designs. All rights reserved; RefDes: RefDes; Type: DEV; Value: Value
footprint RC0402N
pins: 1, 2

## S1KB-13-F
designator CR?
Imported; Manufacturer_Part_Number: S1KB-13-F; Vendor: Diodes Inc; Built_By: EMA_UL_Team; Type: DEV; C: Copyright (C) 2015 Accelerated Designs. All rights reserved; RefDes: RefDes; Value: Value
footprint SMB
pins: 1, 2

## S1M-13-F
designator CR?
Imported; Manufacturer_Part_Number: S1M-13-F; Vendor: Diodes Inc; Built_By: EMA_UL_Team; Type: DEV; C: Copyright (C) 2015 Accelerated Designs. All rights reserved; RefDes: RefDes; Value: Value
footprint SMA
pins: 1, 2

## SMW28R2JT
designator R?, comment 8.2 2W
Imported; Manufacturer_Part_Number: SMW28R2JT; Vendor: TE Connectivity; Built_By: EMA_UL_Team; C: Copyright (C) 2015 Accelerated Designs. All rights reserved; RefDes: RefDes; Type: DEV; Value: Value
footprint RES_SMF2_TYCO
pins: 1, 2

## US1J-13-F
designator CR?
Imported; Vendor: Diodes Inc; Built_By: EMA_UL_Team; Type: DEV; C: Copyright (C) 2015 Accelerated Designs. All rights reserved; Manufacturer_Part_Number: US1J-13-F; RefDes: RefDes; Value: Value
footprint SMA
pins: 1, 2